# EAGLE library part PIC16F1825 (library jasons_stuff)
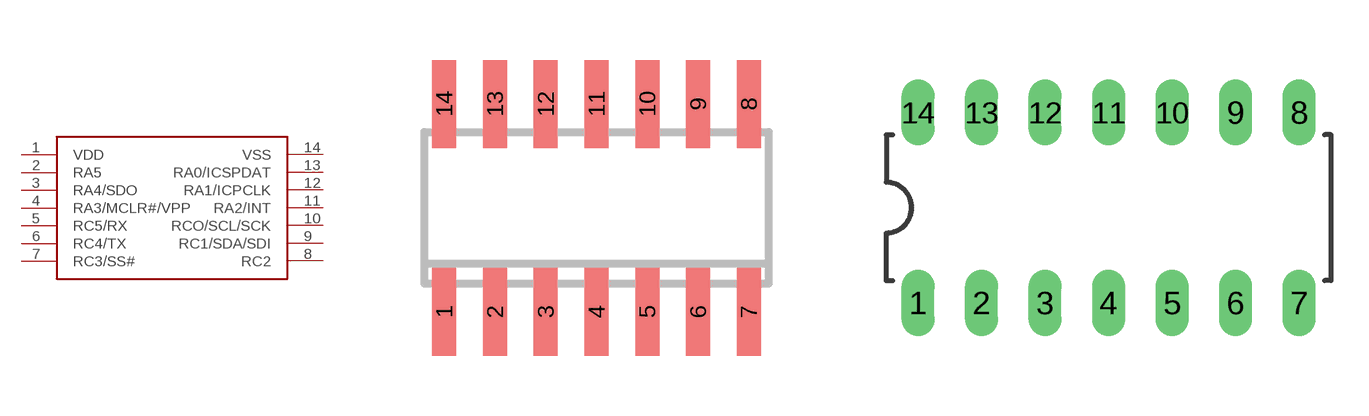
[diagram p33: symbol with the pads of SO14; footprints SO14, DIL14]

Designator prefix -

## PIC16F1825SO14  [SO14]
1  VDD  pwr
2  RA5
3  RA4/SDO
4  RA3/MCLR#/VPP  in
5  RC5/RX
6  RC4/TX
7  RC3/SS#
8  RC2
9  RC1/SDA/SDI
10  RCO/SCL/SCK
11  RA2/INT
12  RA1/ICPCLK
13  RA0/ICSPDAT
14  VSS  pwr

## PIC16F1825DIL14  [DIL14]
Pads as for SO14

## Footprint SO14 (pad centres in mm)
Small Outline Package 14
smd 0.6 x 2.2: 1 -3.81,-2.6; 2 -2.54,-2.6; 3 -1.27,-2.6; 4 0,-2.6; 5 1.27,-2.6; 6 2.54,-2.6; 7 3.81,-2.6; 8 3.81,2.6; 9 2.54,2.6; 10 1.27,2.6; 11 0,2.6; 12 -1.27,2.6; 13 -2.54,2.6; 14 -3.81,2.6

## Footprint DIL14 (pad centres in mm)
drill 0.813 long: 1 -8.89,-3.81; 2 -6.35,-3.81; 3 -3.81,-3.81; 4 -1.27,-3.81; 5 1.27,-3.81; 6 3.81,-3.81; 7 6.35,-3.81; 8 6.35,3.81; 9 3.81,3.81; 10 1.27,3.81; 11 -1.27,3.81; 12 -3.81,3.81; 13 -6.35,3.81; 14 -8.89,3.81